# EAGLE library part 74CBTLVD3245 (library pixel)
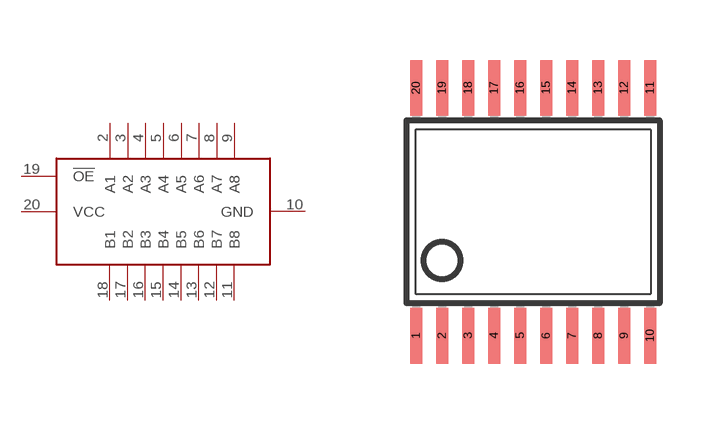
[diagram p21: symbol with the pads of TSSOP20-LL; footprint TSSOP20-LL]

Designator prefix -

## 74CBTLVD3245  [TSSOP20-LL]
2  A1
3  A2
4  A3
5  A4
6  A5
7  A6
8  A7
9  A8
10  GND
11  B8
12  B7
13  B6
14  B5
15  B4
16  B3
17  B2
18  B1
19  !OE
20  VCC

## Footprint TSSOP20-LL (pad centres in mm)
Thin Shrink Small Outline Plastic 20 MAX3223-MAX3243.pdf
smd 0.3 x 1.4: 1 -2.925,-3.1; 2 -2.275,-3.1; 3 -1.625,-3.1; 4 -0.975,-3.1; 5 -0.325,-3.1; 6 0.325,-3.1; 7 0.975,-3.1; 8 1.625,-3.1; 9 2.275,-3.1; 10 2.925,-3.1; 11 2.925,3.1; 12 2.275,3.1; 13 1.625,3.1; 14 0.975,3.1; 15 0.325,3.1; 16 -0.325,3.1; 17 -0.975,3.1; 18 -1.625,3.1; 19 -2.275,3.1; 20 -2.925,3.1